# EAGLE library part LM2901 (library op-amp)
IC QUAD DIFF COMP
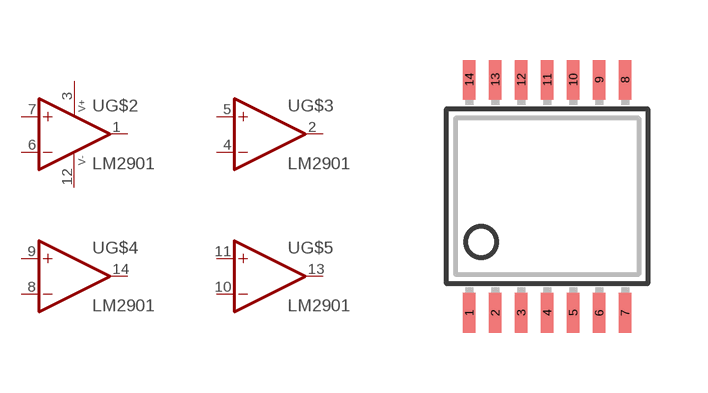
[diagram p72: symbol with the pads of TSSOP14; footprint TSSOP14]

Designator prefix U; gates G$1=PWR+- G$2=COMPARATOR-OC G$3=COMPARATOR-OC G$4=COMPARATOR-OC G$5=COMPARATOR-OC

## LM2901 (DIGIKEY: 296-23832-1-ND; MFR: Texas Instruments; MPN: LM2901QPWRG4Q1; P1I: o)  [TSSOP14]
1  G$2:OUT  oc
2  G$3:OUT  oc
3  G$1:V+  pwr
4  G$3:-IN  in
5  G$3:+IN  in
6  G$2:-IN  in
7  G$2:+IN  in
8  G$4:-IN  in
9  G$4:+IN  in
10  G$5:-IN  in
11  G$5:+IN  in
12  G$1:V-  pwr
13  G$5:OUT  oc
14  G$4:OUT  oc

## Footprint TSSOP14 (pad centres in mm)
Thin Shrink Small Outline Plastic 14
smd 0.305 x 0.991: 1 -1.95,-2.918; 2 -1.3,-2.918; 3 -0.65,-2.918; 4 0,-2.918; 5 0.65,-2.918; 6 1.3,-2.918; 7 1.95,-2.918; 8 1.95,2.918; 9 1.3,2.918; 10 0.65,2.918; 11 0,2.918; 12 -0.65,2.918; 13 -1.3,2.918; 14 -1.95,2.918